# Altium schematic symbol library ADS805_DDS_Ext_Board_v2.SCHLIB: 24 symbols
Pins are listed as number, name and electrical type; pins without a type are passive.

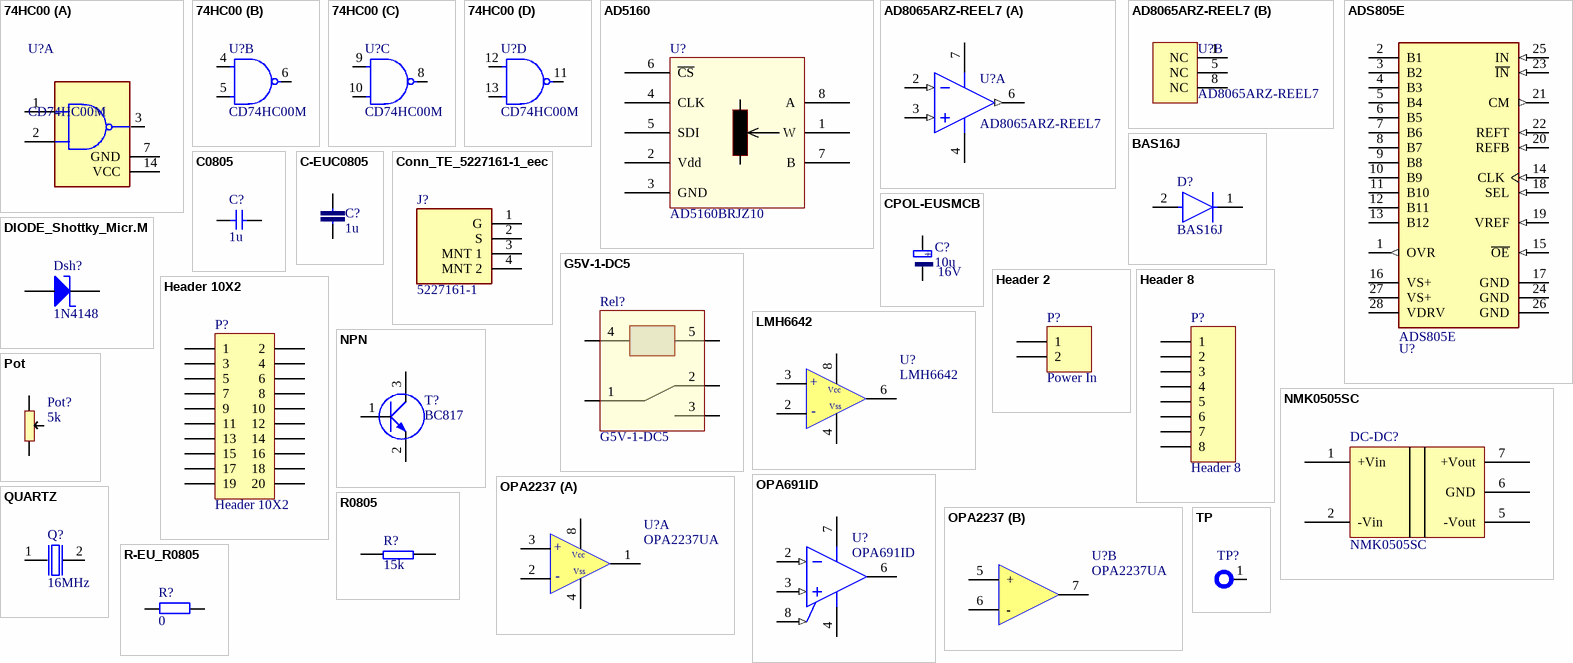
[diagram p0: symbols 74HC00 to TP]

## 74HC00
designator U?  Part Number: CD74HC00M  (hidden comment: 74HC00)
Manufacturer: Texas Instruments; Mfg Package Ident: D (R-PDSO-G14); helpURL: https://upverter.com/upn/revision/7b6160b552506a1a/; ComponentLink2Description: Datasheet; Temperature: -55ï¿½C to +125ï¿½C; Package: D (R-PDSO-G14); Supplier 2: Mouser; Supplier 1: Digi-Key; ComponentLink1URL: https://upverter.com/upn/revision/7b6160b552506a1a/; Supplier Part Number 2: 595-CD74HC00M; Supplier Part Number 1: 296-9167-5-ND; ComponentLink1Description: Upverter; ComponentLink2URL: http://www.ti.com/lit/ds/symlink/cd74hc00.pdf; RoHS: TRUE; Mouser Part Number: 595-CD74HC00M; Temperature Range High: +125ï¿½C; Digikey Description: IC GATE NAND 4CH 2-INP 14-SOIC; Digikey Part Number: 296-9167-5-ND; Lead Free: yes; Temperature Range Low: -55ï¿½C
footprint Texas_Instruments_D_R-PDSO-G14_0
part A pins: 1 1A, 2 1B, 3 1Y, 7 GND, 14 VCC
part B pins: 4 2A, 5 2B, 6 2Y
part C pins: 8 3Y, 9 3A, 10 3B
part D pins: 11 4Y, 12 4A, 13 4B

## AD5160
designator U?, comment AD5160BRJZ10
footprint SOT23-8
pins: 1 W, 2 Vdd, 3 GND, 4 CLK, 5 SDI, 6 ~{CS}, 7 B, 8 A

## AD8065ARZ-REEL7
designator U?
Single Channel Low Power Operational Amplifier, 145 MHz BW, 180 V/us SR, Industrial, 8-pin SOIC (R-8), Reel; Generic Part Number: AD8065; Manufacturer: Analog Devices; Amplifiers Per Package: 1; Small Signal Bandwidth: 145MHz; V Span Min: 5V; Iq/Amp: 7.4mA; Input Bias Current: 2pA; V Span Max: 24V; Automotive Qualified: Yes; Input Offset Voltage: 400uV; ComponentLink4Description: Reference Circuit; PartNumber: AD8065ARZ-REEL7; ComponentLink1Description: Manufacturer URL; ComponentLink2Description: Datasheet; DatasheetVersion: Rev. J; ComponentLink3URL: http://www.analog.com/static/imported-files/packages/PKG_PDF/SOIC_Narrow%20(R)/R_8.pdf; ComponentLink3Description: Package Specification; ComponentLink1URL: http://www.analog.com/en/index.html; Code_JEDEC: MS-012-AA; RevisionNote: Reference Circuit URL fixed; ComponentLink4URL: http://www.analog.com/en/all-operational-amplifiers-op-amps/operational-amplifiers-op-amps/ad8065/products/product.html#product-recommendations; ComponentLink2URL: http://www.analog.com/static/imported-files/data_sheets/AD8065_8066.pdf; PackageReference: R-8; PackageVersion: 060506-A; Slew Rate: 180V/us; Mounting Technology: Surface Mount; PackageDescription: 8-Pin Standard Small Outline Package, Body 3.9 x 4.9 mm, Pitch 1.27 mm
footprint ADI-R-8_M (SOIC, 8-Leads, Body 4.9x3.9mm, Pitch 1.27mm, IPC Low Density)
part A pins: 2 -IN (in), 3 +IN (in), 4 -VS (power), 6 VOUT (out), 7 +VS (power)
part B pins: 1 NC, 5 NC, 8 NC

## ADS805E
designator U?  (value not drawn)
PartNumber: PartNumber
footprint SSOP-28
pins: 1 OVR (out), 2 B1 (hiz), 3 B2 (hiz), 4 B3 (hiz), 5 B4 (hiz), 6 B5 (hiz), 7 B6 (hiz), 8 B7 (hiz), 9 B8 (hiz), 10 B9 (hiz), 11 B10 (hiz), 12 B11 (hiz), 13 B12 (hiz), 14 CLK (in), 15 ~{OE} (in), 16 VS+ (power), 17 GND (power), 18 SEL (in), 19 VREF (in), 20 REFB (in), 21 CM (out), 22 REFT (in), 23 ~{IN} (in), 24 GND (power), 25 IN (in), 26 GND (power), 27 VS+ (power), 28 VDRV (power)

## BAS16J
designator D?
footprint Nexperia_SOD323F_0
pins: 1 C, 2 A

## C0805
designator C?  value 1u
Capacitor
footprint 0805S (Model Description)
pins: 1, 2

## C-EUC0805
designator C?  value 1u
Capacitor
footprint 0805S
pins: 1, 2

## Conn_TE_5227161-1_eec
designator J?  Part Number: 5227161-1  (hidden comment: Conn_TE_5227161-1_eec)
CONN BNC JACK R/A 50 OHM PCB; Manufacturer: TE; helpURL: https://upverter.com/upn/revision/afd383a9d654b72b/; ComponentLink2Description: Datasheet; Temperature: -55ï¿½C to +85ï¿½C; Package: CONN_PTH_34MM93_14MM76; Supplier 2: Mouser; Price: 2.64327485307; Supplier 1: Digi-Key; ComponentLink1URL: https://upverter.com/upn/revision/afd383a9d654b72b/; Supplier Part Number 2: 571-5227161-1; Supplier Part Number 1: A32244-ND; ComponentLink1Description: Upverter; ComponentLink2URL: https://upverter.com/datasheet/49771252df981c78dca83f18cfc46655f789ba58.pdf; RoHS: TRUE; Mouser Part Number: 571-5227161-1; Temperature Range High: +85ï¿½C; Digikey Description: CONN BNC JACK R/A 50 OHM PCB; Digikey Part Number: A32244-ND; Lead Free: yes; Temperature Range Low: -55ï¿½C
footprint TE_5227161-1_0
pins: 1 G, 2 S, 3 MNT 1, 4 MNT 2

## CPOL-EUSMCB
designator C?  value 10u  Value1: 16V  (hidden comment: CPOL-EUSMCB)
Capacitor
footprint TANT CAP B SMD
pins: +, -

## DIODE_Shottky_Micr.M
designator Dsh?  value 1N4148  (hidden comment: DIODE_Shottky_Micr.M)
Diode Shottky
footprint 1N4148 (1005)
pins: A, K

## G5V-1-DC5
designator Rel?
footprint G5V-1
pins: 1, 2, 3, 4, 5

## Header 2
designator P?, comment Power In
Header, 2-Pin; LatestRevisionDate: 17-Jul-2002; LatestRevisionNote: Re-released for DXP Platform.; Publisher: Altium Limited
footprint HDR1X2 (Connector; Header; 2 Position)
signal-integrity model Connector
pins: 1, 2

## Header 8
designator P?
Header, 8-Pin; LatestRevisionDate: 17-Jul-2002; LatestRevisionNote: Re-released for DXP Platform.; Publisher: Altium Limited
footprint DDS_PCB
signal-integrity model Connector
pins: 1, 2, 3, 4, 5, 6, 7, 8

## Header 10X2
designator P?
Header, 10-Pin, Dual row; LatestRevisionDate: 17-Jul-2002; LatestRevisionNote: Re-released for DXP Platform.; Publisher: Altium Limited
footprint HDR2X10 (Connector; Header; 10x2 Position)
signal-integrity model Connector
pins: 1, 2, 3, 4, 5, 6, 7, 8, 9, 10, 11, 12, 13, 14, 15, 16, 17, 18, 19, 20

## LMH6642
designator U?
footprint SO-8
pins: 2 nIn, 3 pIn, 4 Vss, 6 out, 8 Vcc
text: +; -

## NMK0505SC
designator DC-DC?
footprint NMK0505SC
pins: 1 +Vin, 2 -Vin, 5 -Vout, 6 GND, 7 +Vout

## NPN
designator T?  value BC817  (hidden comment: NPN)
Bipol. Transistor
footprint SOT-23
pins: 1, 2, 3

## OPA691ID
designator U?
Wideband Current Feedback Operational Amplifier with Disable, 5 to 12 V, -40 to 85 degC, 8-pin SOIC (D8), Green (RoHS & no Sb/Br); Manufacturer: Texas Instruments; Diff Gain(%): 0.07; 3rd Harmonic(dBc): 93; Slew Rate(Typ)(V/us): 2100; Sub Family: High Output Current Amplifier (>=50mA), High Speed Amplifier (>=50MHz); Diff Phase(deg): 0.02; Iq per channel(Max)(mA): 4.5; 2nd Harmonic(dBc): 79; Vs(Max)(V): 12; Io(Typ)(mA): 190; Settling Time (0.1%)(Typ)(ns): 8; Number of Channels: 1; BW @ Acl(MHz): 280; Vn at Flatband(Typ)(nV/rtHz): 1.7; THD (Fc is 1 MHz)(Typ)(dB): -80; @ MHz: 5; Iib(Max)(nA): 45000; Vio(Max)(mV): 2.5; Eco-Plan: Green (RoHS & no Sb/Br); PartNumber: OPA691ID; ComponentLink1Description: Manufacturer URL; DatasheetVersion: SBOS226D; ComponentLink3URL: http://www.ti.com/litv/pdf/msoi002j; ComponentLink1URL: http://www.ti.com/; Code_JEDEC: MS-012; ComponentLink2URL: http://www.ti.com/general/docs/lit/getliterature.tsp?genericPartNumber=OPA691&fileType=pdf; ComponentLink3Description: Package Specification; ComponentLink2Description: Datasheet; PackageVersion: 4040047-3/M, 06/2011; Vs(Min)(V): 5; Mounting Technology: Surface Mount; PackageReference: D0008A; PackageDescription: 8-Pin Plastic Small Outline, Body 4.9 x 3.9 mm, Pitch 1.27 mm; Acl, min stable gain(V/V): 1
footprint SO-8
footprint D0008A_M
footprint D0008A_L
pins: 2 IN- (in), 3 IN+ (in), 4 VS- (power), 6 OUT (hiz), 7 VS+ (power), 8 ~{DIS} (in)

## OPA2237
designator U?  value OPA2237UA  (hidden comment: OPA2237)
Integrated Circuit
footprint SO-8; pin to pad 6>11
part A pins: 1 out, 2 nIn, 3 pIn, 4 Vss, 8 Vcc
part B pins: 5 +, 6 -, 7 Out

## Pot
designator Pot?, comment 5k
footprint Pot
pins: 1 0, 2 1, 3 2

## QUARTZ
designator Q?  value 16MHz  (hidden comment: QUARTZ)
Quartz Resonator
footprint QUARTZ 16M
pins: 1, 2

## R0805
designator R?  value 15k
Resistor
footprint 0805S (Model Description)
pins: 1, 2

## R-EU_R0805
designator R?  value 0
Resistor
footprint 0805S
pins: 1, 2

## TP
designator TP?  (value not drawn)
Test Point; Value: Test Point
footprint TestPoitS
pins: 1 PIN